# Altium schematic symbol library SchematicLibrary.SchLib: 77 symbols
Pins are listed as number, name and electrical type; pins without a type are passive.

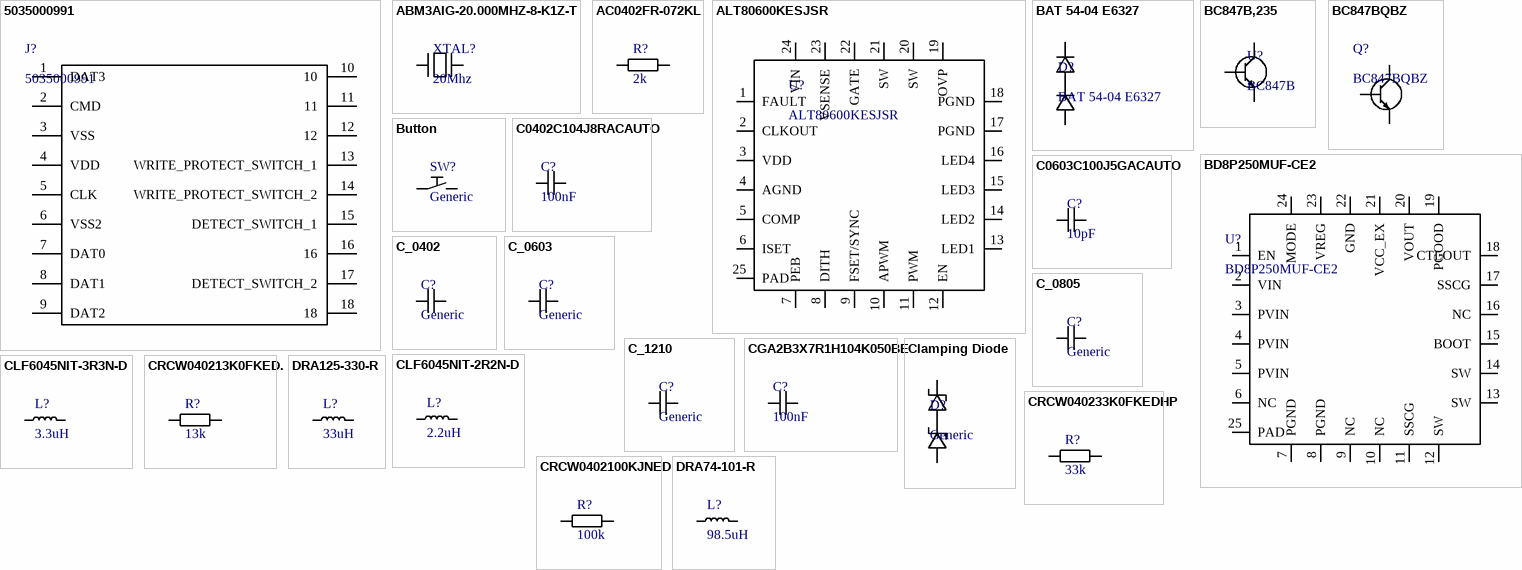
[diagram p0: symbols 5035000991 to DRA125-330-R]

## 5035000991
designator J?
SD Card Connector; Manufacturer_Name: Molex; Datasheet Link: https://www.arrow.com/en/products/5035000991/molex; Height: 2.95mm; Manufacturer_Part_Number: 5035000991; Arrow Part Number: 5035000991; Arrow Price/Stock: https://www.arrow.com/en/products/5035000991/molex?region=nac
footprint 5035000991
pins: 1 DAT3, 2 CMD, 3 VSS, 4 VDD, 5 CLK, 6 VSS2, 7 DAT0, 8 DAT1, 9 DAT2, 10, 11, 12, 13 WRITE_PROTECT_SWITCH_1, 14 WRITE_PROTECT_SWITCH_2, 15 DETECT_SWITCH_1, 16, 17 DETECT_SWITCH_2, 18

## ABM3AIG-20.000MHZ-8-K1Z-T
designator XTAL?, comment 20Mhz
footprint ABM3AIG-20.000MHZ-8-K1Z-T (DFN, 2-Leads, Body 3,20x5,00mm, Pitch 3,70mm, IPC Medium Density)
pins: 1, 2

## AC0402FR-072KL
designator R?, comment 2k
2k 1% 62.5mW
footprint R_0402
pins: 1, 2

## ALT80600KESJSR
designator U?
LED Driver Boost
footprint ALT80600KESJSR
pins: 1 FAULT, 2 CLKOUT, 3 VDD, 4 AGND, 5 COMP, 6 ISET, 7 PEB, 8 DITH, 9 FSET/SYNC, 10 APWM, 11 PWM, 12 EN, 13 LED1, 14 LED2, 15 LED3, 16 LED4, 17 PGND, 18 PGND, 19 OVP, 20 SW, 21 SW, 22 GATE, 23 VSENSE, 24 VIN, 25 PAD

## BAT 54-04 E6327
designator D?
Clamping Diode
footprint SOT95P240X110-3N
pins: 1, 2, 3

## BC847B,235
designator U?, comment BC847B
NPN Transistor 50V 100mA 100MHz
footprint SOT95P230X110-3N
pins: 1 B, 2 E, 3 C

## BC847BQBZ
designator Q?
NPN Transistor 45V 100mA 100MHz; Manufacturer_Name: Nexperia; Manufacturer_Part_Number: BC847CQBZ; Datasheet Link: https://assets.nexperia.com/documents/data-sheet/BC847XQB_SER.pdf; Height: 0.5mm; Mouser Part Number: 771-BC847CQBZ; Mouser Price/Stock: https://www.mouser.co.uk/ProductDetail/Nexperia/BC847CQBZ?qs=GBLSl2AkirulMH7yF0zTsA%3D%3D
footprint PESD2CANFD24UQBZ
pins: 1 B, 2 E, 3 C

## BD8P250MUF-CE2
designator U?
Buck Regulator
footprint BD8P250MUF-CE2
pins: 1 EN, 2 VIN, 3 PVIN, 4 PVIN, 5 PVIN, 6 NC, 7 PGND, 8 PGND, 9 NC, 10 NC, 11 SSCG, 12 SW, 13 SW, 14 SW, 15 BOOT, 16 NC, 17 SSCG, 18 CTLOUT, 19 PGOOD, 20 VOUT, 21 VCC_EX, 22 GND, 23 VREG, 24 MODE, 25 PAD

## Button
designator SW?, comment Generic
pins: 1, 2

## C0402C104J8RACAUTO
designator C?, comment 100nF
100nF 10V 0402 X7R
footprint C_0402 (Chip Capacitor, 2-Leads, Body 1,00x0,50mm, IPC Medium Density)
pins: 1, 2

## C0603C100J5GACAUTO
designator C?, comment 10pF
10pF 50V C0G/NP0
footprint C_0603
pins: 1, 2

## C_0402
designator C?, comment Generic
footprint C_0402 (Chip Capacitor, 2-Leads, Body 1,00x0,50mm, IPC Medium Density)
pins: 1, 2

## C_0603
designator C?, comment Generic
footprint C_0603
pins: 1, 2

## C_0805
designator C?, comment Generic
footprint C_0805
pins: 1, 2

## C_1210
designator C?, comment Generic
footprint C_1210
pins: 1, 2

## CGA2B3X7R1H104K050BE
designator C?, comment 100nF
100nF 50V X7R
footprint C_0402 (Chip Capacitor, 2-Leads, Body 1,00x0,50mm, IPC Medium Density)
pins: 1, 2

## Clamping Diode
designator D?, comment Generic
pins: 1, 2, 3

## CLF6045NIT-2R2N-D
designator L?, comment 2.2uH
2.2uH 0.015R 4,2A
footprint CLF6045NIT-2R2N-D (Precision Wire Wound Inductor, 2-Leads, Body 6,30x6,00mm, IPC Medium Density)
pins: 1, 2

## CLF6045NIT-3R3N-D
designator L?, comment 3.3uH
3.3uH 19mohms 3.5A
footprint CLF6045NIT-3R3N-D (Precision Wire Wound Inductor, 2-Leads, Body 6,30x6,00mm, IPC Medium Density)
pins: 1, 2

## CRCW040213K0FKED.
designator R?, comment 13k
13k 1% 62.5mW
footprint R_0402
pins: 1, 2

## CRCW040233K0FKEDHP
designator R?, comment 33k
33k 1% 200mW
footprint R_0402
pins: 1, 2

## CRCW0402100KJNED
designator R?, comment 100k
100k 5% 62.5mW
footprint R_0402
pins: 1, 2

## DRA74-101-R
designator L?, comment 98.5uH
98.5uH 822mA 929mA 503mOhm
footprint DRA74-101-R
pins: 1, 2

## DRA125-330-R
designator L?, comment 33uH
33uH 3.19A 3.09A 64mOhm
footprint DRA125-330-R (33uH Inductor)
pins: 1, 2

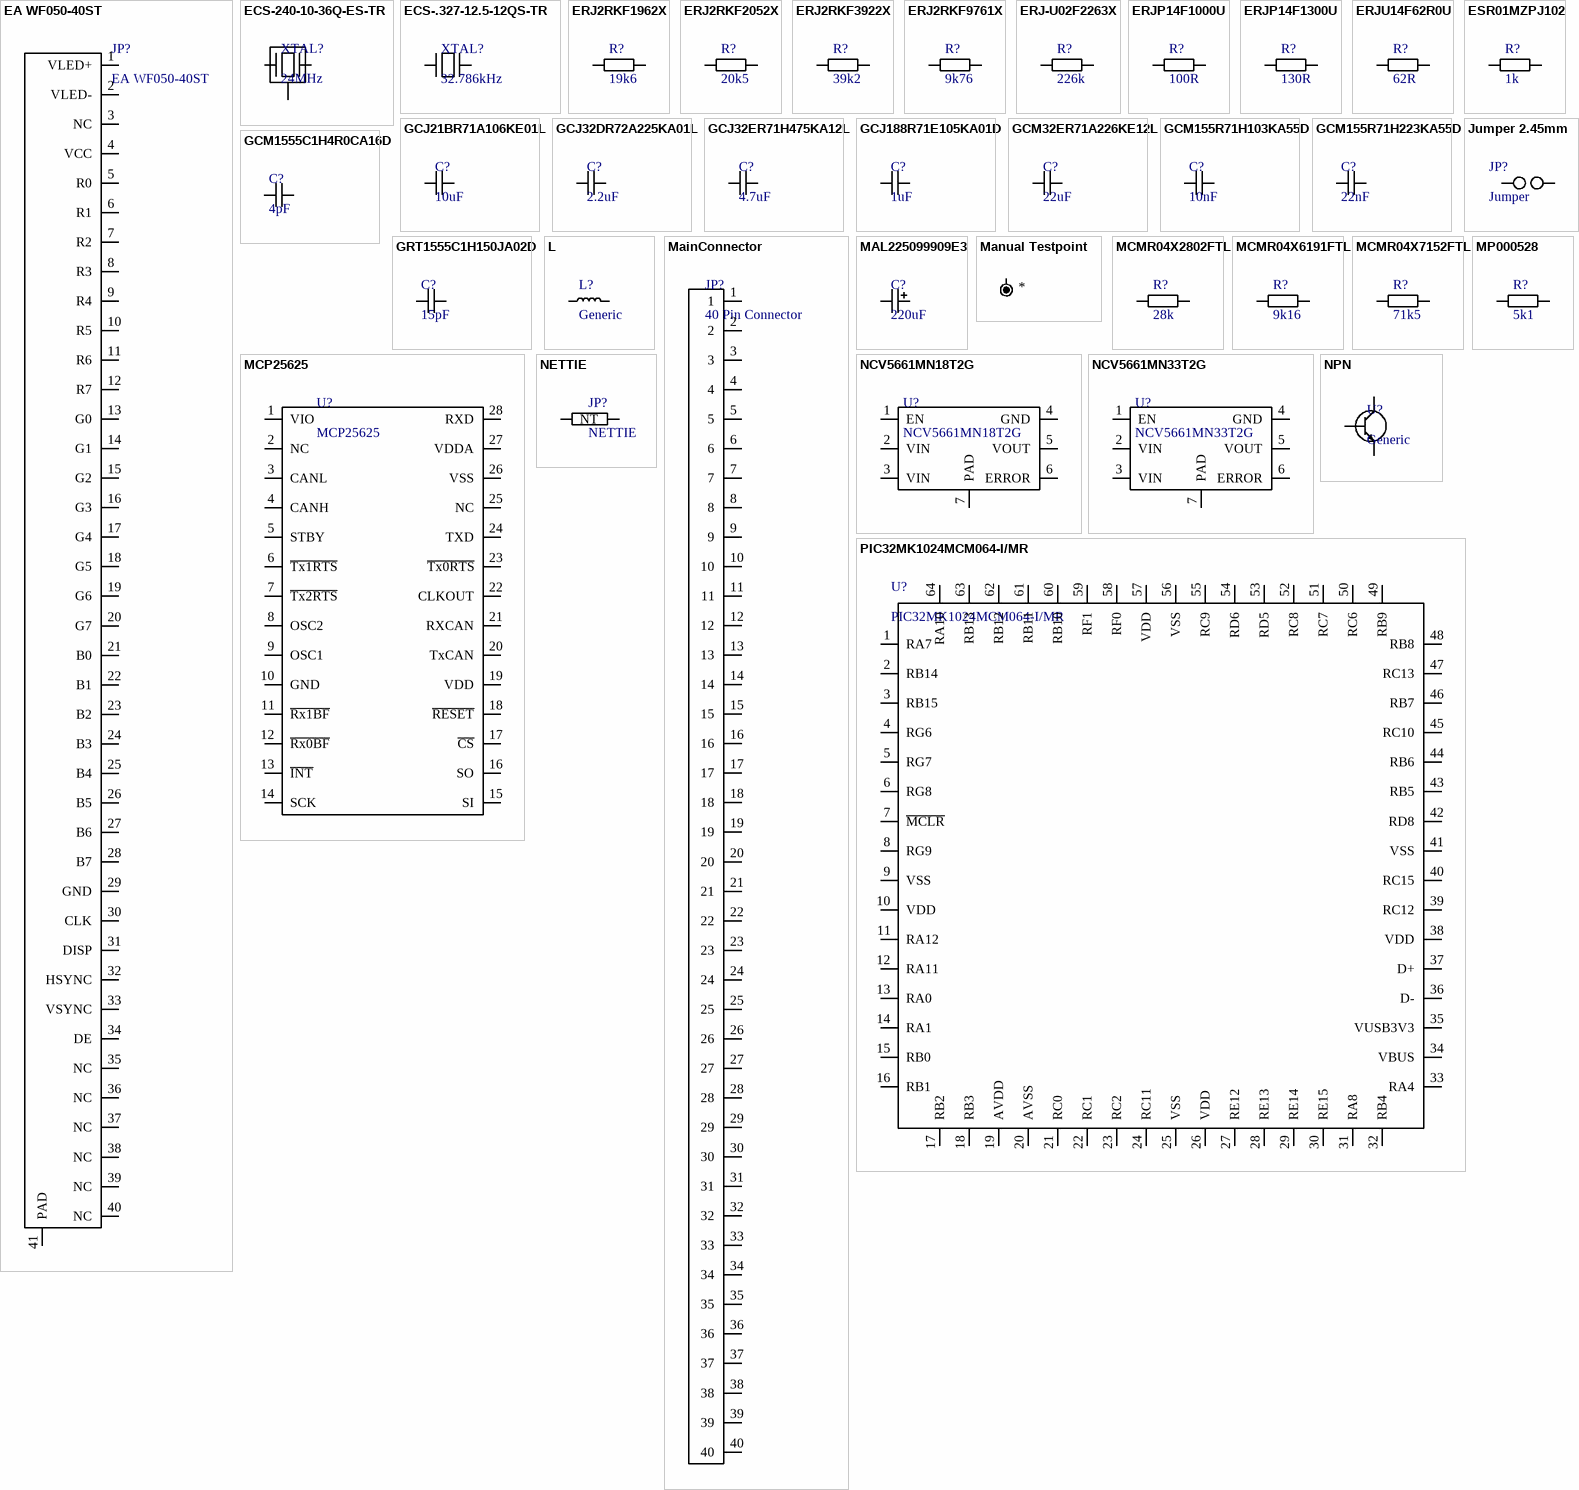
[diagram p1: symbols EA WF050-40ST to PIC32MK1024MCM064-I/MR]

## EA WF050-40ST
designator JP?
Display Connector for EA W800X-50AILW
footprint EA WF050-40ST (40 Pin FPC Connector)
pins: 1 VLED+, 2 VLED-, 3 NC, 4 VCC, 5 R0, 6 R1, 7 R2, 8 R3, 9 R4, 10 R5, 11 R6, 12 R7, 13 G0, 14 G1, 15 G2, 16 G3, 17 G4, 18 G5, 19 G6, 20 G7, 21 B0, 22 B1, 23 B2, 24 B3, 25 B4, 26 B5, 27 B6, 28 B7, 29 GND, 30 CLK, 31 DISP, 32 HSYNC, 33 VSYNC, 34 DE, 35 NC, 36 NC, 37 NC, 38 NC, 39 NC, 40 NC, 41 PAD

## ECS-240-10-36Q-ES-TR
designator XTAL?, comment 24MHz
24MHz 10pF 30ppm
footprint ECS2401036QESTR
pins: 1, 2, 3 CASE

## ECS-.327-12.5-12QS-TR
designator XTAL?, comment 32.786kHz
32.786kHz 12.5pF 20ppm
footprint ECS32712512QSTR
pins: 1, 2

## ERJ2RKF1962X
designator R?, comment 19k6
19k6 1% 100mW
footprint R_0402
pins: 1, 2

## ERJ2RKF2052X
designator R?, comment 20k5
20k5 1% 100mW
footprint R_0402
pins: 1, 2

## ERJ2RKF3922X
designator R?, comment 39k2
39k2 1% 100mW
footprint R_0402
pins: 1, 2

## ERJ2RKF9761X
designator R?, comment 9k76
9k76 1% 100mW
footprint R_0402
pins: 1, 2

## ERJ-U02F2263X
designator R?, comment 226k
226k 1% 100mW
footprint R_0402
pins: 1, 2

## ERJP14F1000U
designator R?, comment 100R
100R 1% 500mW
footprint R_1210
pins: 1, 2

## ERJP14F1300U
designator R?, comment 130R
130R 1% 500mW
footprint R_1210
pins: 1, 2

## ERJU14F62R0U
designator R?, comment 62R
62R 1% 500mW
footprint R_1210
pins: 1, 2

## ESR01MZPJ102
designator R?, comment 1k
1k 5% 200mW
footprint R_0402
pins: 1, 2

## GCJ21BR71A106KE01L
designator C?, comment 10uF
10uF 10V X7R
footprint C_0805
pins: 1, 2

## GCJ32DR72A225KA01L
designator C?, comment 2.2uF
2.2uF 100V X7R
footprint C_1210
pins: 1, 2

## GCJ32ER71H475KA12L
designator C?, comment 4.7uF
4.7uF 50V X7R
footprint C_1210
pins: 1, 2

## GCJ188R71E105KA01D
designator C?, comment 1uF
1uF 25V X7R
footprint C_0603
pins: 1, 2

## GCM32ER71A226KE12L
designator C?, comment 22uF
22uF 10V X7R
footprint C_1210
pins: 1, 2

## GCM155R71H103KA55D
designator C?, comment 10nF
10nF 50V 0402 X7R
footprint C_0402 (Chip Capacitor, 2-Leads, Body 1,00x0,50mm, IPC Medium Density)
pins: 1, 2

## GCM155R71H223KA55D
designator C?, comment 22nF
22nF 50V X7R
footprint C_0402 (Chip Capacitor, 2-Leads, Body 1,00x0,50mm, IPC Medium Density)
pins: 1, 2

## GCM1555C1H4R0CA16D
designator C?, comment 4pF
4pF 50V C0G/NP0
footprint C_0402 (Chip Capacitor, 2-Leads, Body 1,00x0,50mm, IPC Medium Density)
pins: 1, 2

## GRT1555C1H150JA02D
designator C?, comment 15pF
15pF 50V C0G/NP0
footprint C_0402 (Chip Capacitor, 2-Leads, Body 1,00x0,50mm, IPC Medium Density)
pins: 1, 2

## Jumper 2.45mm
designator JP?, comment Jumper
2.45mm Jumper; Manufacturer_Name: Amphenol; Manufacturer_Part_Number: 77311-118-02LF; Datasheet Link: https://cdn.amphenol-icc.com/media/wysiwyg/files/drawing/77311.pdf; Height: 8.94mm; Mouser Part Number: 649-77311-118-02LF; Mouser Price/Stock: https://www.mouser.co.uk/ProductDetail/Amphenol-FCI/77311-118-02LF?qs=5xI8GKdkXlmD4cdGgiyi7w%3D%3D; Arrow Part Number: 77311-118-02LF; Arrow Price/Stock: https://www.arrow.com/en/products/77311-118-02lf/amphenol-fci?region=europe
footprint 7731111802LF
pins: 1, 2

## L
designator L?, comment Generic
pins: 1, 2

## MainConnector
designator JP?, comment 40 Pin Connector
pins: 1, 2, 3, 4, 5, 6, 7, 8, 9, 10, 11, 12, 13, 14, 15, 16, 17, 18, 19, 20, 21, 22, 23, 24, 25, 26, 27, 28, 29, 30, 31, 32, 33, 34, 35, 36, 37, 38, 39, 40

## MAL225099909E3
designator C?, comment 220uF
220uF 100V
footprint MAL225099909E3
pins: 1, 2

## Manual Testpoint
designator JP?, comment Testpoint  (value not drawn)
TestpointName: *
footprint Manual Testpoint
pins: 1

## MCMR04X2802FTL
designator R?, comment 28k
28k 1% 62.5mW
footprint R_0402
pins: 1, 2

## MCMR04X6191FTL
designator R?, comment 9k16
9k16 1% 62.5mW
footprint R_0402
pins: 1, 2

## MCMR04X7152FTL
designator R?, comment 71k5
71k5 1% 62.5mW
footprint R_0402
pins: 1, 2

## MCP25625
designator U?
CAN Trasciever and Controller SPI
footprint MCP25625-E/SS (CAN Transciever and Controller SPI)
pins: 1 VIO, 2 NC, 3 CANL, 4 CANH, 5 STBY, 6 ~{Tx1RTS}, 7 ~{Tx2RTS}, 8 OSC2, 9 OSC1, 10 GND, 11 ~{Rx1BF}, 12 ~{Rx0BF}, 13 ~{INT}, 14 SCK, 15 SI, 16 SO, 17 ~{CS}, 18 ~{RESET}, 19 VDD, 20 TxCAN, 21 RXCAN, 22 CLKOUT, 23 ~{Tx0RTS}, 24 TXD, 25 NC, 26 VSS, 27 VDDA, 28 RXD

## MP000528
designator R?, comment 5k1
5k1 1% 100mW
footprint R_0402
pins: 1, 2

## NCV5661MN18T2G
designator U?
1V8 LDO
footprint NCV5661MN18T2G (SON, 6-Leads, Body 3,00x3,30mm, Pitch 0,95mm, Thermal Pad 2,00x1,20mm, IPC Medium Density)
pins: 1 EN, 2 VIN, 3 VIN, 4 GND, 5 VOUT, 6 ERROR, 7 PAD

## NCV5661MN33T2G
designator U?
3V3 LDO
footprint NCV5661MN33T2G (SON, 6-Leads, Body 3,00x3,30mm, Pitch 0,95mm, Thermal Pad 2,00x1,20mm, IPC Medium Density)
pins: 1 EN, 2 VIN, 3 VIN, 4 GND, 5 VOUT, 6 ERROR, 7 PAD

## NETTIE
designator JP?
4-Way Net Tie
footprint NETTIE
pins: 1 2, 2
text: NT

## NPN
designator U?, comment Generic
pins: 1 B, 2 E, 3 C

## PIC32MK1024MCM064-I/MR
designator U?
RC13 and RB8 only Inputs (when used are slower)
footprint PIC32MK1024MCM064-I/MR (QFN, 64-Leads, Body 9,00x9,00mm, Pitch 0,50mm, Thermal Pad 7,15x7,15mm, IPC Medium Density)
pins: 1 RA7, 2 RB14, 3 RB15, 4 RG6, 5 RG7, 6 RG8, 7 ~{MCLR}, 8 RG9, 9 VSS, 10 VDD, 11 RA12, 12 RA11, 13 RA0, 14 RA1, 15 RB0, 16 RB1, 17 RB2, 18 RB3, 19 AVDD, 20 AVSS, 21 RC0, 22 RC1, 23 RC2, 24 RC11, 25 VSS, 26 VDD, 27 RE12, 28 RE13, 29 RE14, 30 RE15, 31 RA8, 32 RB4, 33 RA4, 34 VBUS, 35 VUSB3V3, 36 D-, 37 D+, 38 VDD, 39 RC12, 40 RC15, 41 VSS, 42 RD8, 43 RB5, 44 RB6, 45 RC10, 46 RB7, 47 RC13, 48 RB8, 49 RB9, 50 RC6, 51 RC7, 52 RC8, 53 RD5, 54 RD6, 55 RC9, 56 VSS, 57 VDD, 58 RF0, 59 RF1, 60 RB10, 61 RB11, 62 RB12, 63 RB13, 64 RA10

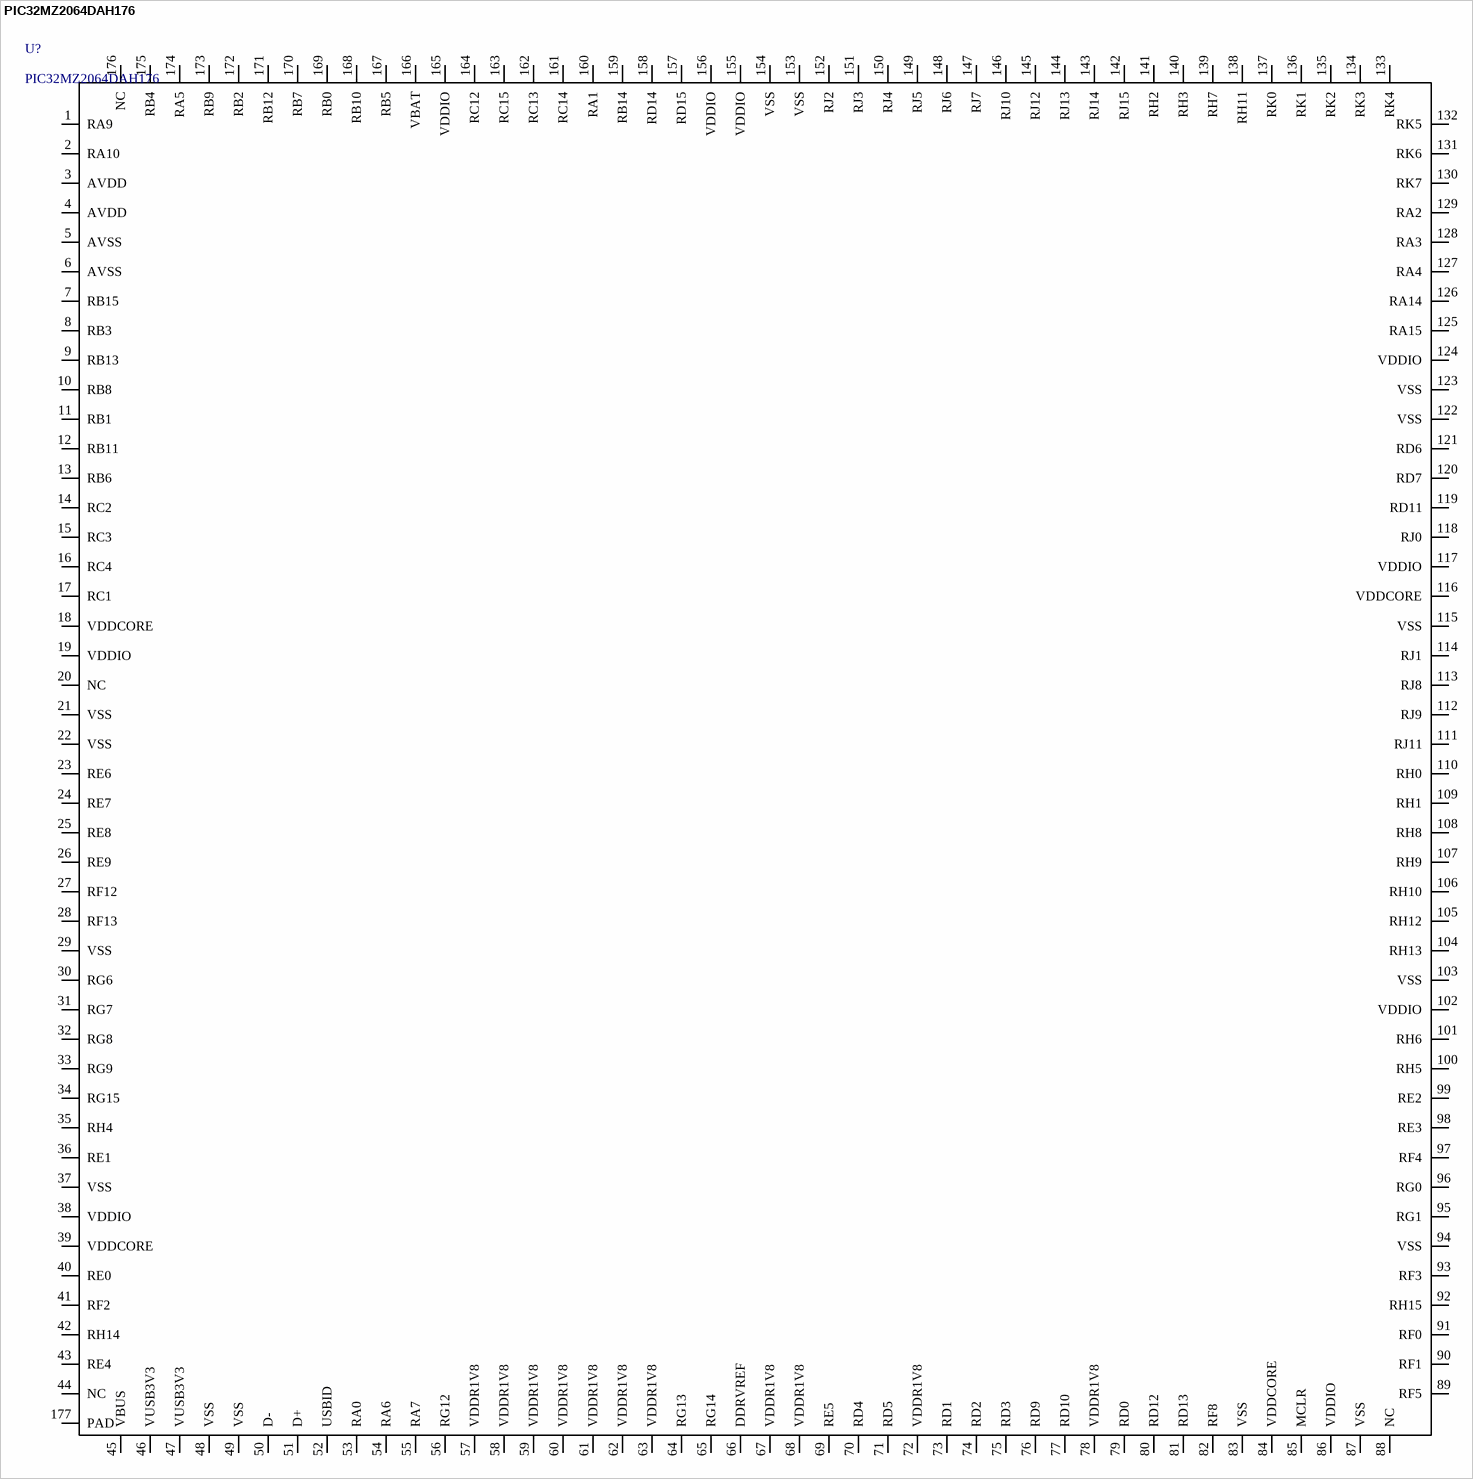
[diagram p2: symbol PIC32MZ2064DAH176]

## PIC32MZ2064DAH176
designator U?
Has 5V Tolerant Pins
footprint PIC32MZ2064DAH176T-I/2J (TSQFP, 176-Leads, Body 20,00x20,00mm, Pitch 0,40mm, Thermal Pad 7,10x7,10mm, IPC Medium Density)
pins: 1 RA9, 2 RA10, 3 AVDD, 4 AVDD, 5 AVSS, 6 AVSS, 7 RB15, 8 RB3, 9 RB13, 10 RB8, 11 RB1, 12 RB11, 13 RB6, 14 RC2, 15 RC3, 16 RC4, 17 RC1, 18 VDDCORE, 19 VDDIO, 20 NC, 21 VSS, 22 VSS, 23 RE6, 24 RE7, 25 RE8, 26 RE9, 27 RF12, 28 RF13, 29 VSS, 30 RG6, 31 RG7, 32 RG8, 33 RG9, 34 RG15, 35 RH4, 36 RE1, 37 VSS, 38 VDDIO, 39 VDDCORE, 40 RE0, 41 RF2, 42 RH14, 43 RE4, 44 NC, 45 VBUS, 46 VUSB3V3, 47 VUSB3V3, 48 VSS, 49 VSS, 50 D-, 51 D+, 52 USBID, 53 RA0, 54 RA6, 55 RA7, 56 RG12, 57 VDDR1V8, 58 VDDR1V8, 59 VDDR1V8, 60 VDDR1V8, 61 VDDR1V8, 62 VDDR1V8, 63 VDDR1V8, 64 RG13, 65 RG14, 66 DDRVREF, 67 VDDR1V8, 68 VDDR1V8, 69 RE5, 70 RD4, 71 RD5, 72 VDDR1V8, 73 RD1, 74 RD2, 75 RD3, 76 RD9, 77 RD10, 78 VDDR1V8, 79 RD0, 80 RD12, 81 RD13, 82 RF8, 83 VSS, 84 VDDCORE, 85 MCLR, 86 VDDIO, 87 VSS, 88 NC, 89 RF5, 90 RF1, 91 RF0, 92 RH15, 93 RF3, 94 VSS, 95 RG1, 96 RG0, 97 RF4, 98 RE3, 99 RE2, 100 RH5, 101 RH6, 102 VDDIO, 103 VSS, 104 RH13, 105 RH12, 106 RH10, 107 RH9, 108 RH8, 109 RH1, 110 RH0, 111 RJ11, 112 RJ9, 113 RJ8, 114 RJ1, 115 VSS, 116 VDDCORE, 117 VDDIO, 118 RJ0, 119 RD11, 120 RD7, 121 RD6, 122 VSS, 123 VSS, 124 VDDIO, 125 RA15, 126 RA14, 127 RA4, 128 RA3, 129 RA2, 130 RK7, 131 RK6, 132 RK5, 133 RK4, 134 RK3, 135 RK2, 136 RK1, 137 RK0, 138 RH11, 139 RH7, 140 RH3, 141 RH2, 142 RJ15, 143 RJ14, 144 RJ13, 145 RJ12, 146 RJ10, 147 RJ7, 148 RJ6, 149 RJ5, 150 RJ4, 151 RJ3, 152 RJ2, 153 VSS, 154 VSS, 155 VDDIO, 156 VDDIO, 157 RD15, 158 RD14, 159 RB14, 160 RA1, 161 RC14, 162 RC13, 163 RC15, 164 RC12, 165 VDDIO, 166 VBAT, 167 RB5, 168 RB10, 169 RB0, 170 RB7, 171 RB12, 172 RB2, 173 RB9, 174 RA5, 175 RB4, 176 NC, 177 PAD

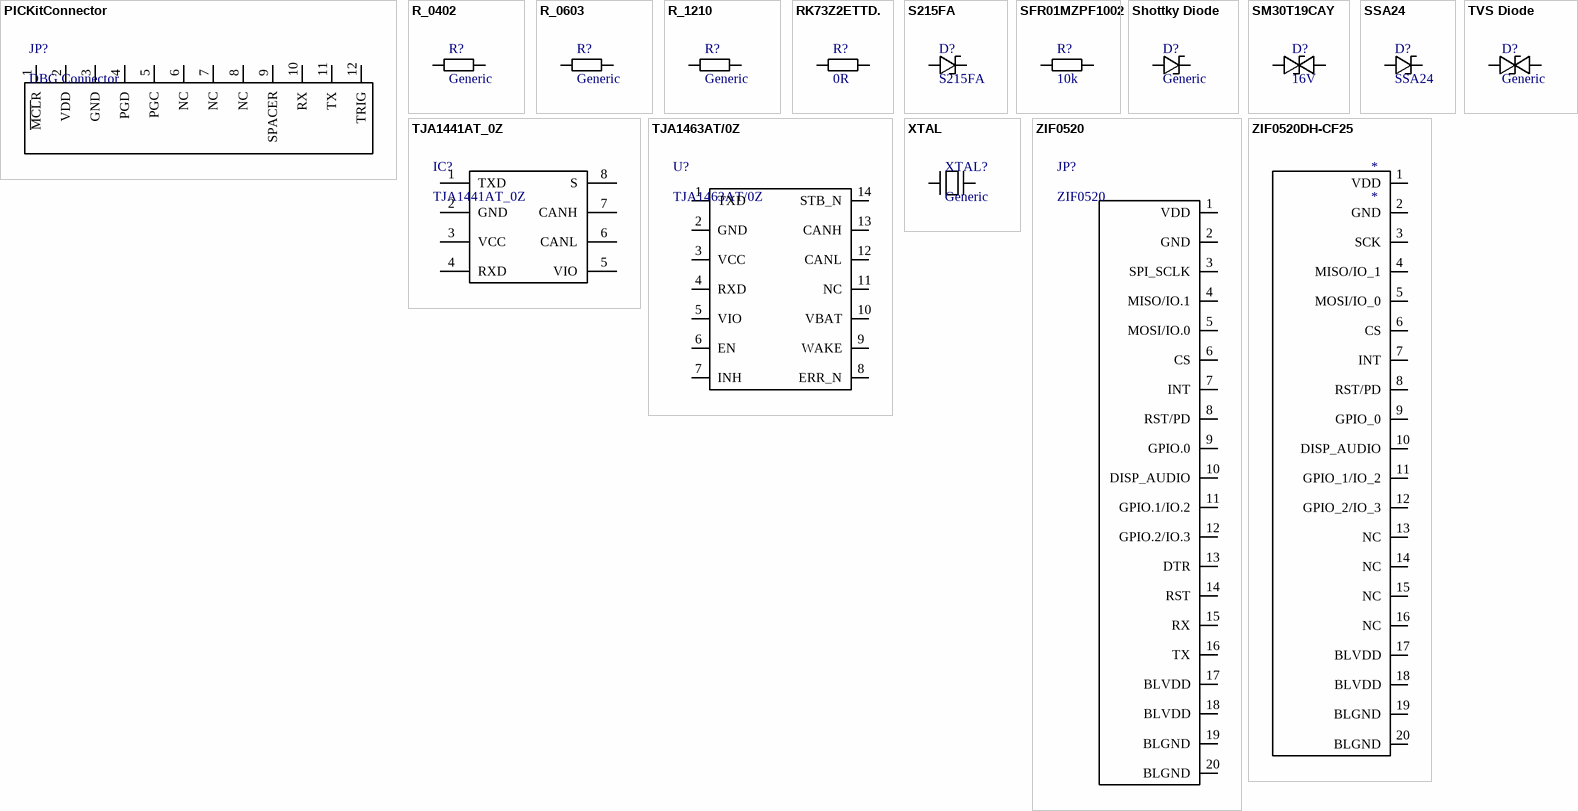
[diagram p3: symbols PICKitConnector to ZIF0520DH-CF25]

## PICKitConnector
designator JP?, comment DBG Connector
2.54mm Header for Pickit 4
footprint HDRV12W63P0X254_1X12_3048X254X950P
pins: 1 ~{MCL}R, 2 VDD, 3 GND, 4 PGD, 5 PGC, 6 NC, 7 NC, 8 NC, 9 SPACER, 10 RX, 11 TX, 12 TRIG

## R_0402
designator R?, comment Generic
footprint R_0402
pins: 1, 2

## R_0603
designator R?, comment Generic
footprint R_0603
pins: 1, 2

## R_1210
designator R?, comment Generic
footprint R_1210
pins: 1, 2

## RK73Z2ETTD.
designator R?, comment 0R
0R 10A
footprint R_1210
pins: 1, 2

## S215FA
designator D?
2A 150V 950mV
footprint S215FA
pins: 1, 2

## SFR01MZPF1002
designator R?, comment 10k
10k 1% 62.5mW
footprint R_0402
pins: 1, 2

## Shottky Diode
designator D?, comment Generic
pins: 1, 2

## SM30T19CAY
designator D?, comment 16V
16V 31.5V
footprint SM30T19CAY
pins: 1, 2

## SSA24
designator D?
40V 2A 500mV
footprint SSA24
pins: 1, 2

## TJA1441AT_0Z
designator IC?
CAN Transciever; Manufacturer_Name: NXP; Manufacturer_Part_Number: TJA1441AT/0Z; Datasheet Link: https://www.mouser.it/datasheet/2/302/TJA1441-1949304.pdf; Height: 1.75mm; Mouser Part Number: 771-TJA1441AT/0Z; Mouser Price/Stock: https://www.mouser.co.uk/ProductDetail/NXP-Semiconductors/TJA1441AT-0Z?qs=eP2BKZSCXI7fcqmlBnmIFw%3D%3D; Arrow Part Number: TJA1441AT/0Z; Arrow Price/Stock: https://www.arrow.com/en/products/tja1441at0z/nxp-semiconductors?region=nac
footprint SOIC127P600X175-8N
pins: 1 TXD, 2 GND, 3 VCC, 4 RXD, 5 VIO, 6 CANL, 7 CANH, 8 S

## TJA1463AT/0Z
designator U?
CAN FD Transciever
footprint TJA1463AT/0Z (SOP, 14-Leads, Body 8,65x3,90mm, Pitch 1,27mm, IPC Medium Density)
pins: 1 TXD, 2 GND, 3 VCC, 4 RXD, 5 VIO, 6 EN, 7 INH, 8 ERR_N, 9 WAKE, 10 VBAT, 11 NC, 12 CANL, 13 CANH, 14 STB_N

## TVS Diode
designator D?, comment Generic
pins: 1, 2

## XTAL
designator XTAL?, comment Generic
pins: 1, 2

## ZIF0520
designator JP?
Display Connector RiBus
pins: 1 VDD, 2 GND, 3 SPI_SCLK, 4 MISO/IO.1, 5 MOSI/IO.0, 6 CS, 7 INT, 8 RST/PD, 9 GPIO.0, 10 DISP_AUDIO, 11 GPIO.1/IO.2, 12 GPIO.2/IO.3, 13 DTR, 14 RST, 15 RX, 16 TX, 17 BLVDD, 18 BLVDD, 19 BLGND, 20 BLGND

## ZIF0520DH-CF25
designator *
footprint ZIF0520DH-CF25
pins: 1 VDD, 2 GND, 3 SCK, 4 MISO/IO_1, 5 MOSI/IO_0, 6 CS, 7 INT, 8 RST/PD, 9 GPIO_0, 10 DISP_AUDIO, 11 GPIO_1/IO_2, 12 GPIO_2/IO_3, 13 NC, 14 NC, 15 NC, 16 NC, 17 BLVDD, 18 BLVDD, 19 BLGND, 20 BLGND